# EAGLE library part 691330300016 (library Eagle_WR-TBL Pluggable Connector (rev21a))
WR-TBL Serie 3303 - 3.81 mm Double Level Vertical Male PCB Header with Flanges KIND PROPERTIES Pitch 3.81 mm MATERIAL PROPERTIES Insulator Material PA66 Insulator Flammability Rating UL94 V-0 Contact Material Brass Contact Plating Tin GENERAL INFORMATION Operating Temperature -40 up to +105 °C Compliance RoHS ELECTRICAL PROPERTIES IR UL 10 A Working Voltage [UL] 300 V (AC) Withstanding Voltage [cULus] 1600 V (AC) Contact Resistance [cULus] 20 mΩ CERTIFICATION cULus Approval E315414 <https://www.we-online.com/catalog/media/o33283v209%20Family_WR-TBL_6913303000xx.jpg> Details see: https://www.we-online.com/catalog/en/TBL_3_81_3303_DOUBLE_LEVEL_VERTICAL_MALE_PCB_HEADER_W_FLANGES_AND_NUT_6913303000XX/ Updated by Ella Wu 2019-12-20 2019(C) Wurth Elektronik
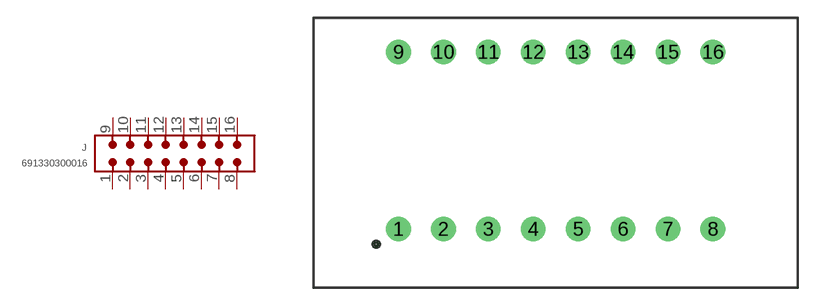
[diagram p125: symbol with the pads of 691330300016; footprint 691330300016]

Designator prefix J

## 691330300016 (DATASHEET-URL: https://www.we-online.com/catalog/datasheet/691330300016.pdf; IR-UL: 10A; MOUNT: THT; PART-NUMBER: 691330300016; PINS: 16; PITCH: 3.81mm; TYPE: Double Level Vertical; VALUE: 691330300016; WORKING-VOLTAGE-UL: 300V (AC))  [691330300016]
1  1  pas
2  2  pas
3  3  pas
4  4  pas
5  5  pas
6  6  pas
7  7  pas
8  8  pas
9  9  pas
10  10  pas
11  11  pas
12  12  pas
13  13  pas
14  14  pas
15  15  pas
16  16  pas

## Footprint 691330300016 (pad centres in mm)
WR-TBL Serie 3303 - 3.81 mm Double Level Vertical Male PCB Header with Flanges & Nut Type Max Height = 22mm , Pitch 3.81mm , 16pins
drill 1.4: 1 -13.335,-7.5; 2 -9.525,-7.5; 3 -5.715,-7.5; 4 -1.905,-7.5; 5 1.905,-7.5; 6 5.715,-7.5; 7 9.525,-7.5; 8 13.335,-7.5; 9 -13.335,7.5; 10 -9.525,7.5; 11 -5.715,7.5; 12 -1.905,7.5; 13 1.905,7.5; 14 5.715,7.5; 15 9.525,7.5; 16 13.335,7.5